# Altium integrated library PCB_Project.IntLib: 70 symbols
Pins are listed as number, name and electrical type; pins without a type are passive.

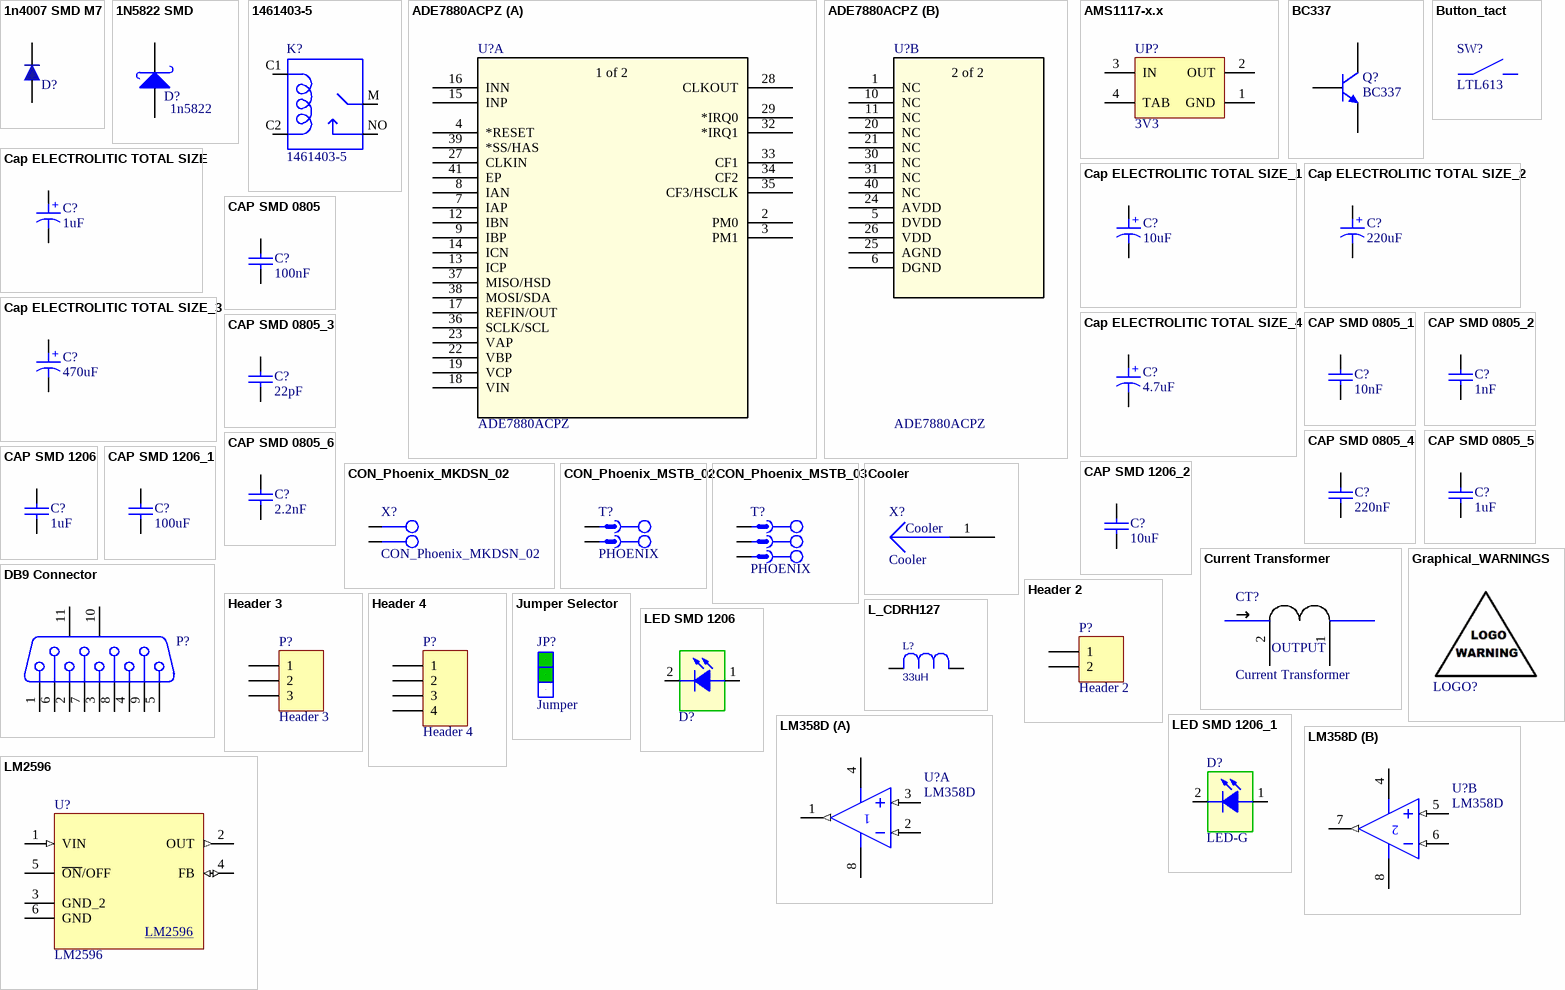
[diagram p0: symbols 1n4007 SMD M7 to LM2596]

## 1n4007 SMD M7
designator D?, comment 1n4007  (value not drawn)
Standard Rectifiers; Part. No: M7; Manufacturer: DC COMPONENTS; Designer: Abbas Basereh; Link: http://www.tme.eu/en/details/m7/smd-universal-diodes/dc-components/; Link: https://www.aliexpress.com/item/Smd-tube-1n4007-m7-SMA/1213719741.html?spm=2114.01010208.3.1.ZyZ7bC&ws_ab_test=searchweb0_0,searchweb201602_4_10065_10068_10084_10083_10080_10082_10081_10060_10061_10062_10056_10055_10054_10059_10099_10078_10079_427_10073_10103_10102_10096_10052_10050_10051,searchweb201603_4&btsid=db2be5ca-e560-400a-b91c-484ab5ee228b; Data: 16-12-2016
footprint DIOM4629X24N (Molded Diode, 2-Leads, Body 4/60x2/90mm, IPC Medium Density)
pins: 1, 2

## 1N5822 SMD
designator D?, comment 1n5822
Schottky Rectifiers; Part. No: SS34; Manufacturer: ON Semiconductor/Fairchild; Designer: Abbas Basereh; Link: https://www.aliexpress.com/item/Free-shipping-100pcs-1n5822-sma-smd-do-214ac-Schottky-diode-ss34/32337482329.html?spm=2114.01010208.3.1.zLZDsP&ws_ab_test=searchweb0_0,searchweb201602_4_10065_10068_10084_10083_10080_10082_10081_10060_10061_10062_10056_10055_10054_10059_10099_10078_10079_427_10073_10103_10102_10096_10052_10050_10051,searchweb201603_4&btsid=6e50dc92-ac69-45bc-a19e-209af19ce602; Link: http://www.tme.eu/en/details/ss34/smd-schottky-diodes/vishay/ss34-e357t/; Link: http://www.digikey.com/product-detail/en/on-semiconductor-fairchild/SS34/SS34FSCT-ND/2094459; Data: 16-12-2016
footprint DIOM7568X24N (Molded Diode, 2-Leads, Body 7/50x6/80mm, IPC Medium Density)
footprint DO-214AB(SMC) (Molded Diode, 2-Leads, Body 6/85x5/90mm, IPC Medium Density DESIGNER ABBAS BASEREH)
pins: 1 A, 2 K

## 1461403-5
designator K?
Electromechanical Relay 24VDC 2.8KOhm 8A SPST-NO_18.2x10.2x14.7_mm THT Industrial Relay; MF: TE Connectivity; Price: None; Package: None; TE_purchase_URL: https://www.te.com/usa-en/product-1461403-5.html?te_bu=Cor&te_type=disp&te_campaign=seda_glo_cor-seda-global-disp-prtnr-fy19-seda-model-bom-cta_sma-317_1&elqCampaignId=32493; Value: *; MP: 1461403-5; Availability: Unavailable; SnapEDA_Link: https://www.snapeda.com/parts/1461403-5/TE%20Connectivity%20Potter%20%26%20Brumfield%20Relays/view-part/2370888/?ref=snap
footprint RELAY_1461403-5
footprint Miniature_Relay
pins: C1, C2, M, NO

## ADE7880ACPZ
designator U?
No Description Available; Mfr_Name: Analog Devices Inc; Copyright: Copyright (C) 2022 Ultra Librarian. All rights reserved.; Manufacturer_Part_Number: ADE7880ACPZ; RefDes: RefDes; Type: DEV
footprint CP_40_10_ADI
part A pins: 2 PM0, 3 PM1, 4 *RESET, 7 IAP, 8 IAN, 9 IBP, 12 IBN, 13 ICP, 14 ICN, 15 INP, 16 INN, 17 REFIN/OUT, 18 VIN, 19 VCP, 22 VBP, 23 VAP, 27 CLKIN, 28 CLKOUT, 29 *IRQ0, 32 *IRQ1, 33 CF1, 34 CF2, 35 CF3/HSCLK, 36 SCLK/SCL, 37 MISO/HSD, 38 MOSI/SDA, 39 *SS/HAS, 41 EP
part B pins: 1 NC, 5 DVDD, 6 DGND, 10 NC, 11 NC, 20 NC, 21 NC, 24 AVDD, 25 AGND, 26 VDD, 30 NC, 31 NC, 40 NC
part A text: 1 of 2
part B text: 2 of 2

## AMS1117-x.x
designator UP?, comment 3V3
x.x Volt, 800mA Low-Dropout Linear Regulator, 4-pin SOT-223; Designer: Ali Hafizi; Data: 16-12-2016
footprint SOT223 (SOT223, 4-Leads, Body 6.5x3.5mm, Pitch 2.30mm-Designer Abbas Basereh)
footprint SOT223_L (SOT223, 4-Leads, Body 6.5x3.5mm, Pitch 2.3mm, Lead Span 7mm, IPC High Density)
footprint SOT223_M (SOT223, 4-Leads, Body 6.5x3.5mm, Pitch 2.3mm, Lead Span 7mm, IPC Low Density)
footprint SOT223_N (SOT223, 4-Leads, Body 6.5x3.5mm, Pitch 2.3mm, Lead Span 7mm, IPC Medium Density)
pins: 1 GND (power), 2 OUT (power), 3 IN (power), 4 TAB (power)

## BC337
designator Q?
45 V, 500 mA NPN general-purpose transistors; Published: 2017-2-8; LatestRevisionDate: 2017; LatestRevisionNote: IPC-7351 Footprint Added.; DatasheetVersion: 2017; PackageVersion: 2017-2-8; PackageReference: SOT23; Publisher: Abbas Basereh; PackageDescription: 3-Pin SOT-23 Package 0.95 mm Pitch, 2.3 mm Lead Span; ComponentLink1Description: Manufacturer Link; ComponentLink1URL: http://www.nxp.com/; ComponentLink2Description: Datasheet; ComponentLink2URL: http://www.nxp.com/
footprint SOT23_N (SOT23, 3-Leads, Body 2.9x1.3mm, Pitch 0.95mm, Lead Span 2.3mm, IPC Medium Density)
footprint SOT23_L (SOT23, 3-Leads, Body 2.9x1.3mm, Pitch 0.95mm, Lead Span 2.3mm, IPC High Density)
footprint SOT23_M (SOT23, 3-Leads, Body 2.9x1.3mm, Pitch 0.95mm, Lead Span 2.3mm, IPC Low Density)
pins: 1 B, 2 E, 3 C

## Button_tact
designator SW?, comment LTL613
Tact button switch
footprint pb-kfc-3x6x5 (taktile switch)
pins: 0, 1

## Cap ELECTROLITIC TOTAL SIZE
designator C?, comment 1uF
Cap electrolitic radial; Designer: Abbas Basereh; Data: 16-12-2016; Part. No: *; VALUE: 1uF
footprint Cap electrolitic radial 18x36-7.5 (Cap electrolitic radial 18x36-7.5-Design:Abbas Basereh)
footprint Cap electrolitic radial 18x40-7.5 (Cap electrolitic radial 18x40-7.5-Design:Abbas Basereh)
footprint Cap electrolitic radial 5x11-2 (Cap electrolitic radial 5x11-2-Design:Abbas Basereh)
footprint Cap electrolitic radial 5x12-2 (Cap electrolitic radial 5x12-2-Design:Abbas Basereh)
footprint Cap electrolitic radial 8x14-3.5 (Cap electrolitic radial 8x14-3.5-Design:Abbas Basereh)
footprint Cap electrolitic radial 6x7-2.5 (Cap electrolitic radial 6x7-2.5-Design:Abbas Basereh)
footprint Cap electrolitic radial 4x7-1.5 (Cap electrolitic radial 5x11-2-Design:Ali Hafizi)
footprint Cap electrolitic radial 6.3x12-2.5 (Capacitor Electrolytic D=6.3 x H=12 - P=2.5 mm, Altium Compatible)
footprint Cap electrolitic radial 8MM (Cap electrolitic radial 8MM-Design:Ali Hafizi)
footprint Cap electrolitic radial 8x11.5-3.5 (Cap electrolitic radial 8x11.5-3.5-Design:Ali Hafizi)
footprint Cap electrolitic radial 12.5x20-5 (Cap electrolitic radial 12.5x20-5-Design:Abbas Basereh)
footprint Cap electrolitic radial 12.5x25-5 (Cap electrolitic radial 12.5x25-5-Design:Abbas Basereh)
footprint Cap electrolitic radial 12.5x21.5-5 (Cap electrolitic radial 12.5x21.5-5-Design:Ali Hafizi)
footprint Cap SMD 100UF 35~50v
footprint CAP SMD 470uF (SMD CAP 470uF)
footprint CAP SMD 1000UF 16V
footprint Cap1206_(3216X18L)Size A (Footprint not found)
pins: 1, 2
1 alternate drawing of the same symbol
text: +

## Cap ELECTROLITIC TOTAL SIZE_1
designator C?, comment 10uF
Cap electrolitic radial; Designer: Abbas Basereh; VALUE: 1uF; Data: 16-12-2016; Part. No: *
footprint Cap electrolitic radial 10x20-5 (Cap electrolitic radial 10x20-5-Design:Abbas Basereh)
footprint Cap electrolitic radial 8x12-3.5 (Cap electrolitic radial 8x12-3.5-Design:Abbas Basereh)
footprint Cap electrolitic radial 10x16-5 (Cap electrolitic radial 10x16-5-Design:Abbas Basereh)
footprint Cap electrolitic radial 10x25-5 (Cap electrolitic radial 10x25-5-Design:Abbas Basereh)
footprint Cap electrolitic radial 10x30-5 (Cap electrolitic radial 10x30-5-Design:Abbas Basereh)
footprint Cap electrolitic radial 13x25-5 (Cap electrolitic radial 13x25-5-Design:Abbas Basereh)
footprint Cap electrolitic radial 16x26-7.5 (Cap electrolitic radial 16x26-7.5-Design:Abbas Basereh)
footprint Cap electrolitic radial 16x31.5-7.5 (Cap electrolitic radial 16x31.5-7.5-Design:Abbas Basereh)
footprint Cap electrolitic radial 18x26 (Cap electrolitic radial 18x26-Design:Abbas Basereh)
footprint Cap electrolitic radial 18x36-7.5 (Cap electrolitic radial 18x36-7.5-Design:Abbas Basereh)
footprint Cap electrolitic radial 18x40-7.5 (Cap electrolitic radial 18x40-7.5-Design:Abbas Basereh)
footprint Cap electrolitic radial 5x11-2 (Cap electrolitic radial 5x11-2-Design:Abbas Basereh)
footprint Cap electrolitic radial 5x12-2 (Cap electrolitic radial 5x12-2-Design:Abbas Basereh)
footprint Cap electrolitic radial 8x14-3.5 (Cap electrolitic radial 8x14-3.5-Design:Abbas Basereh)
footprint Cap electrolitic radial 6x7-2.5 (Cap electrolitic radial 6x7-2.5-Design:Abbas Basereh)
footprint Cap electrolitic radial 4x7-1.5 (Cap electrolitic radial 5x11-2-Design:Ali Hafizi)
footprint Cap electrolitic radial 6.3x12-2.5 (Capacitor Electrolytic D=6.3 x H=12 - P=2.5 mm, Altium Compatible)
footprint Cap electrolitic radial 8MM (Cap electrolitic radial 8MM-Design:Ali Hafizi)
footprint Cap electrolitic radial 8x11.5-3.5 (Cap electrolitic radial 8x11.5-3.5-Design:Ali Hafizi)
footprint Cap electrolitic radial 12.5x20-5 (Cap electrolitic radial 12.5x20-5-Design:Abbas Basereh)
footprint Cap electrolitic radial 12.5x25-5 (Cap electrolitic radial 12.5x25-5-Design:Abbas Basereh)
footprint Cap electrolitic radial 12.5x21.5-5 (Cap electrolitic radial 12.5x21.5-5-Design:Ali Hafizi)
footprint Cap1206_(3216X18L)Size A (Chip Capacitor, 2-Leads, Body 3.2x1.6mm, IPC High Density, chip Tantalum)
footprint Cap SMD 100UF 35~50v
footprint CAP SMD 470uF (SMD CAP 470uF)
footprint CAP SMD 1000UF 16V
pins: 1, 2
1 alternate drawing of the same symbol
text: +

## Cap ELECTROLITIC TOTAL SIZE_2
designator C?, comment 220uF
Cap electrolitic radial; Designer: Abbas Basereh; VALUE: 1uF; Data: 16-12-2016; Part. No: *
footprint Cap electrolitic radial 10x20-5 (Cap electrolitic radial 10x20-5-Design:Abbas Basereh)
footprint Cap electrolitic radial 8x12-3.5 (Cap electrolitic radial 8x12-3.5-Design:Abbas Basereh)
footprint Cap electrolitic radial 10x16-5 (Cap electrolitic radial 10x16-5-Design:Abbas Basereh)
footprint Cap electrolitic radial 10x25-5 (Cap electrolitic radial 10x25-5-Design:Abbas Basereh)
footprint Cap electrolitic radial 10x30-5 (Cap electrolitic radial 10x30-5-Design:Abbas Basereh)
footprint Cap electrolitic radial 13x25-5 (Cap electrolitic radial 13x25-5-Design:Abbas Basereh)
footprint Cap electrolitic radial 16x26-7.5 (Cap electrolitic radial 16x26-7.5-Design:Abbas Basereh)
footprint Cap electrolitic radial 16x31.5-7.5 (Cap electrolitic radial 16x31.5-7.5-Design:Abbas Basereh)
footprint Cap electrolitic radial 18x26 (Cap electrolitic radial 18x26-Design:Abbas Basereh)
footprint Cap electrolitic radial 18x36-7.5 (Cap electrolitic radial 18x36-7.5-Design:Abbas Basereh)
footprint Cap electrolitic radial 18x40-7.5 (Cap electrolitic radial 18x40-7.5-Design:Abbas Basereh)
footprint Cap electrolitic radial 5x11-2 (Cap electrolitic radial 5x11-2-Design:Abbas Basereh)
footprint Cap electrolitic radial 5x12-2 (Cap electrolitic radial 5x12-2-Design:Abbas Basereh)
footprint Cap electrolitic radial 8x14-3.5 (Cap electrolitic radial 8x14-3.5-Design:Abbas Basereh)
footprint Cap electrolitic radial 6x7-2.5 (Cap electrolitic radial 6x7-2.5-Design:Abbas Basereh)
footprint Cap electrolitic radial 4x7-1.5 (Cap electrolitic radial 5x11-2-Design:Ali Hafizi)
footprint Cap electrolitic radial 6.3x12-2.5 (Capacitor Electrolytic D=6.3 x H=12 - P=2.5 mm, Altium Compatible)
footprint Cap electrolitic radial 8MM (Cap electrolitic radial 8MM-Design:Ali Hafizi)
footprint Cap electrolitic radial 8x11.5-3.5 (Cap electrolitic radial 8x11.5-3.5-Design:Ali Hafizi)
footprint Cap electrolitic radial 12.5x20-5 (Cap electrolitic radial 12.5x20-5-Design:Abbas Basereh)
footprint Cap electrolitic radial 12.5x25-5 (Cap electrolitic radial 12.5x25-5-Design:Abbas Basereh)
footprint Cap electrolitic radial 12.5x21.5-5 (Cap electrolitic radial 12.5x21.5-5-Design:Ali Hafizi)
footprint Cap1206_(3216X18L)Size A (Chip Capacitor, 2-Leads, Body 3.2x1.6mm, IPC High Density, chip Tantalum)
footprint Cap SMD 100UF 35~50v
footprint CAP SMD 470uF (SMD CAP 470uF)
footprint CAP SMD 1000UF 16V
pins: 1, 2
1 alternate drawing of the same symbol
text: +

## Cap ELECTROLITIC TOTAL SIZE_3
designator C?, comment 470uF
Cap electrolitic radial; Designer: Abbas Basereh; Data: 16-12-2016; Part. No: *; VALUE: 470uF
footprint Cap electrolitic radial 10x20-5 (Cap electrolitic radial 10x20-5-Design:Abbas Basereh)
footprint Cap electrolitic radial 8x12-3.5 (Cap electrolitic radial 8x12-3.5-Design:Abbas Basereh)
footprint Cap electrolitic radial 10x16-5 (Cap electrolitic radial 10x16-5-Design:Abbas Basereh)
footprint Cap electrolitic radial 10x25-5 (Cap electrolitic radial 10x25-5-Design:Abbas Basereh)
footprint Cap electrolitic radial 10x30-5 (Cap electrolitic radial 10x30-5-Design:Abbas Basereh)
footprint Cap electrolitic radial 13x25-5 (Cap electrolitic radial 13x25-5-Design:Abbas Basereh)
footprint Cap electrolitic radial 16x26-7.5 (Cap electrolitic radial 16x26-7.5-Design:Abbas Basereh)
footprint Cap electrolitic radial 16x31.5-7.5 (Cap electrolitic radial 16x31.5-7.5-Design:Abbas Basereh)
footprint Cap electrolitic radial 18x26 (Cap electrolitic radial 18x26-Design:Abbas Basereh)
footprint Cap electrolitic radial 18x36-7.5 (Cap electrolitic radial 18x36-7.5-Design:Abbas Basereh)
footprint Cap electrolitic radial 18x40-7.5 (Cap electrolitic radial 18x40-7.5-Design:Abbas Basereh)
footprint Cap electrolitic radial 5x11-2 (Cap electrolitic radial 5x11-2-Design:Abbas Basereh)
footprint Cap electrolitic radial 5x12-2 (Cap electrolitic radial 5x12-2-Design:Abbas Basereh)
footprint Cap electrolitic radial 8x14-3.5 (Cap electrolitic radial 8x14-3.5-Design:Abbas Basereh)
footprint Cap electrolitic radial 6x7-2.5 (Cap electrolitic radial 6x7-2.5-Design:Abbas Basereh)
footprint Cap electrolitic radial 4x7-1.5 (Cap electrolitic radial 5x11-2-Design:Ali Hafizi)
footprint Cap electrolitic radial 6.3x12-2.5 (Capacitor Electrolytic D=6.3 x H=12 - P=2.5 mm, Altium Compatible)
footprint Cap electrolitic radial 8MM (Cap electrolitic radial 8MM-Design:Ali Hafizi)
footprint Cap electrolitic radial 8x11.5-3.5 (Cap electrolitic radial 8x11.5-3.5-Design:Ali Hafizi)
footprint Cap electrolitic radial 12.5x20-5 (Cap electrolitic radial 12.5x20-5-Design:Abbas Basereh)
footprint Cap electrolitic radial 12.5x25-5 (Cap electrolitic radial 12.5x25-5-Design:Abbas Basereh)
footprint Cap electrolitic radial 12.5x21.5-5 (Cap electrolitic radial 12.5x21.5-5-Design:Ali Hafizi)
footprint Cap1206_(3216X18L)Size A (Chip Capacitor, 2-Leads, Body 3.2x1.6mm, IPC High Density, chip Tantalum)
footprint Cap SMD 100UF 35~50v
footprint CAP SMD 470uF (SMD CAP 470uF)
footprint CAP SMD 1000UF 16V
pins: 1, 2
1 alternate drawing of the same symbol
text: +

## Cap ELECTROLITIC TOTAL SIZE_4
designator C?, comment 4.7uF
Cap electrolitic radial; Designer: Abbas Basereh; VALUE: 1uF; Data: 16-12-2016; Part. No: *
footprint Cap electrolitic radial 10x20-5 (Cap electrolitic radial 10x20-5-Design:Abbas Basereh)
footprint Cap electrolitic radial 8x12-3.5 (Cap electrolitic radial 8x12-3.5-Design:Abbas Basereh)
footprint Cap electrolitic radial 10x16-5 (Cap electrolitic radial 10x16-5-Design:Abbas Basereh)
footprint Cap electrolitic radial 10x25-5 (Cap electrolitic radial 10x25-5-Design:Abbas Basereh)
footprint Cap electrolitic radial 10x30-5 (Cap electrolitic radial 10x30-5-Design:Abbas Basereh)
footprint Cap electrolitic radial 13x25-5 (Cap electrolitic radial 13x25-5-Design:Abbas Basereh)
footprint Cap electrolitic radial 16x26-7.5 (Cap electrolitic radial 16x26-7.5-Design:Abbas Basereh)
footprint Cap electrolitic radial 16x31.5-7.5 (Cap electrolitic radial 16x31.5-7.5-Design:Abbas Basereh)
footprint Cap electrolitic radial 18x26 (Cap electrolitic radial 18x26-Design:Abbas Basereh)
footprint Cap electrolitic radial 18x36-7.5 (Cap electrolitic radial 18x36-7.5-Design:Abbas Basereh)
footprint Cap electrolitic radial 18x40-7.5 (Cap electrolitic radial 18x40-7.5-Design:Abbas Basereh)
footprint Cap electrolitic radial 5x11-2 (Cap electrolitic radial 5x11-2-Design:Abbas Basereh)
footprint Cap electrolitic radial 5x12-2 (Cap electrolitic radial 5x12-2-Design:Abbas Basereh)
footprint Cap electrolitic radial 8x14-3.5 (Cap electrolitic radial 8x14-3.5-Design:Abbas Basereh)
footprint Cap electrolitic radial 6x7-2.5 (Cap electrolitic radial 6x7-2.5-Design:Abbas Basereh)
footprint Cap electrolitic radial 4x7-1.5 (Cap electrolitic radial 5x11-2-Design:Ali Hafizi)
footprint Cap electrolitic radial 6.3x12-2.5 (Capacitor Electrolytic D=6.3 x H=12 - P=2.5 mm, Altium Compatible)
footprint Cap electrolitic radial 8MM (Cap electrolitic radial 8MM-Design:Ali Hafizi)
footprint Cap electrolitic radial 8x11.5-3.5 (Cap electrolitic radial 8x11.5-3.5-Design:Ali Hafizi)
footprint Cap electrolitic radial 12.5x20-5 (Cap electrolitic radial 12.5x20-5-Design:Abbas Basereh)
footprint Cap electrolitic radial 12.5x25-5 (Cap electrolitic radial 12.5x25-5-Design:Abbas Basereh)
footprint Cap electrolitic radial 12.5x21.5-5 (Cap electrolitic radial 12.5x21.5-5-Design:Ali Hafizi)
footprint Cap1206_(3216X18L)Size A (Chip Capacitor, 2-Leads, Body 3.2x1.6mm, IPC High Density, chip Tantalum)
footprint Cap SMD 100UF 35~50v
footprint CAP SMD 470uF (SMD CAP 470uF)
footprint CAP SMD 1000UF 16V
footprint CAPP 1206 (3216X18L) Size A (Chip Capacitor, 2-Leads, Body 3.2x1.6mm, IPC High Density, chip Tantalum)
pins: 1, 2
1 alternate drawing of the same symbol
text: +

## CAP SMD 0805
designator C?, comment 100nF
CAP 0805; Designer: Abbas Basereh; Desc.: CAP SMD 0805; Data: 16-12-2016
footprint CAPC3413X12N (Chip Capacitor, 2-Leads, Body 3/40x1/30mm, IPC Medium Density)
pins: 1, 2

## CAP SMD 0805_1
designator C?, comment 10nF
CAP 0805; Designer: Abbas Basereh; Desc.: CAP SMD 0805; Data: 16-12-2016
footprint CAPC3413X12N (Chip Capacitor, 2-Leads, Body 3/40x1/30mm, IPC Medium Density)
pins: 1, 2

## CAP SMD 0805_2
designator C?, comment 1nF
CAP 0805; Designer: Abbas Basereh; Desc.: CAP SMD 0805; Data: 16-12-2016
footprint CAPC3413X12N (Chip Capacitor, 2-Leads, Body 3/40x1/30mm, IPC Medium Density)
pins: 1, 2

## CAP SMD 0805_3
designator C?, comment 22pF
CAP 0805; Designer: Abbas Basereh; Desc.: CAP SMD 0805; Data: 16-12-2016
footprint CAPC3413X12N (Chip Capacitor, 2-Leads, Body 3/40x1/30mm, IPC Medium Density)
pins: 1, 2

## CAP SMD 0805_4
designator C?, comment 220nF
CAP 0805; Designer: Abbas Basereh; Desc.: CAP SMD 0805; Data: 16-12-2016
footprint CAPC3413X12N (Chip Capacitor, 2-Leads, Body 3/40x1/30mm, IPC Medium Density-Design:Abbas Basereh)
pins: 1, 2

## CAP SMD 0805_5
designator C?, comment 1uF
CAP 0805; Designer: Abbas Basereh; Desc.: CAP SMD 0805; Data: 16-12-2016
footprint CAPC3413X12N (Chip Capacitor, 2-Leads, Body 3/40x1/30mm, IPC Medium Density)
footprint CAPC3413X12N (Chip Capacitor, 2-Leads, Body 3/40x1/30mm, IPC Medium Density-Design:Abbas Basereh)
pins: 1, 2

## CAP SMD 0805_6
designator C?, comment 2.2nF
CAP 0805; Designer: Abbas Basereh; Desc.: CAP SMD 0805; Data: 16-12-2016
footprint CAPC3413X12N (Chip Capacitor, 2-Leads, Body 3/40x1/30mm, IPC Medium Density)
pins: 1, 2

## CAP SMD 1206
designator C?, comment 1uF
CAP 1206; Designer: Abbas Basereh; Desc.: CAP SMD 1206; Data: 16-12-2016
footprint 0805_C
pins: 1, 2

## CAP SMD 1206_1
designator C?, comment 100uF
CAP 1206; Designer: Abbas Basereh; Desc.: CAP SMD 1206; Data: 16-12-2016
footprint CAPC4817X12N (Chip Capacitor, 2-Leads, Body 4/80x1/70mm, IPC Medium Density)
pins: 1, 2

## CAP SMD 1206_2
designator C?, comment 10uF
CAP 1206; Designer: Abbas Basereh; Desc.: CAP SMD 1206; Data: 16-12-2016
footprint CAPC4817X12N (Chip Capacitor, 2-Leads, Body 4/80x1/70mm, IPC Medium Density)
pins: 1, 2

## CON_Phoenix_MKDSN_02
designator X?
Manufacturer: PHOENIX CONTACT; Company: SJ Libraries; Connector type: PCB Terminal Block; designer: Eng. Saeid Jorablo; Max Current: 13.5 A; Positions: 2; Revision 1: 2012/10/1 : Adding Model; Voltage: 400 V; Category: Connector; ComponentLink1Description: Datasheet; ComponentLink2Description: Reference; HelpURL: http://s3.picofile.com/file/7443264187/Coming_Soon_logo.gif; Mounting Technology: Through-Hole; Pin Count: 2; Publisher: SJ UnLimited; Status: Unreleased; Update: 2012/10/1
footprint CON_MSTBA02
footprint MSTB 2,5/2-G-5,08
pins: 1, 2

## CON_Phoenix_MSTB_02
designator T?, comment PHOENIX
2 Pitch: 5.08 mm Color: green Contact surface: Tin Assembly; Manufacturer: PHOENIX CONTACT; Connector type: PCB Terminal Block; designer: ABBAS BASEREH; Max Current: 12 A; Positions: 2; Voltage: 320 V; Category: Connector; ComponentLink1Description: Header, Nominal current: 12 A Rated voltage (III/2): 320 V Number of positions: 2 Pitch: 5.08 mm Color: green Contact surface: Tin Assembly: Soldering  DESIGNER:ABBAS BASEREH; ComponentLink2Description: Reference; Mounting Technology: Through-Hole; Pin Count: 2; Revision 1: 2017-3-1; Status: Unreleased; PART.NO: PHOENIX
footprint MSTB 2,5/2-G-5,08 (Header, Nominal current: 12 A Rated voltage (III/2): 320 V Number of positions: 2 Pitch: 5.08 mm Color: green Contact surface: Tin Assembly: Soldering DESIGNER:ABBAS BASEREH)
signal-integrity model CON-2P (CON-PHOENIX)
footprint MSTB 2,5/2-G (Header, Nominal current: 12 A Rated voltage (III/2): 320 V Number of positions: 2 Pitch: 5.08 mm Color: green Contact surface: Tin Assembly: Soldering)
pins: 1, 2

## CON_Phoenix_MSTB_03
designator T?, comment PHOENIX
3 Pitch: 5.08 mm Color: green Contact surface: Tin Assembly; Manufacturer: PHOENIX CONTACT; Connector type: PCB Terminal Block; designer: ABBAS BASEREH; Max Current: 12 A; Positions: 3; Voltage: 320 V; Category: Connector; ComponentLink1Description: Header, Nominal current: 12 A Rated voltage (III/2): 320 V Number of positions: 3 Pitch: 5.08 mm Color: green Contact surface: Tin Assembly: Soldering  DESIGNER:ABBAS BASEREH; ComponentLink2Description: Reference; Mounting Technology: Through-Hole; Pin Count: 3; Revision 1: 2017-3-1; Status: Unreleased; PART.NO: PHOENIX
footprint MSTB 2,5/3-G-5,08 (Header, Nominal current: 12 A Rated voltage (III/2): 320 V Number of positions: 3 Pitch: 5.08 mm Color: green Contact surface: Tin Assembly: Soldering  DESIGNER:ABBAS BASEREH)
signal-integrity model CON-3P (CON-PHOENIX)
footprint MSTB 2,5/3-G
pins: 1, 2, 3

## Cooler
designator X?
footprint Cooler
pins: 1 5

## Current Transformer
designator CT?
footprint Current Transformer_60/0.06
footprint Current Transformer_5/0.005
pins: 1 IN (power), 2 OUT, 3, 4
text: OUTPUT

## DB9 Connector
designator P?  (value not drawn)
Receptacle Assembly, 9 Position, Right Angle; PackageDocument: O; Positions: 9; Published: 15-Jun-2001; LatestRevisionDate: 17-Jul-2002; LatestRevisionNote: Re-released for DXP Platform.; DatasheetDocument: 1-Sep-1999; PackageReference: 788750; Publisher: Altium Limited; Orientation: Right Angle; Gender: Receptacle
signal-integrity model Connector
footprint DB9 Female (Connector; D Subminiature AMPLIMITE 2000; 9 Position; Right Angle)
footprint DB9 Male (Connector; D Subminiature AMPLIMITE 2000; 9 Position; Right Angle)
pins: 1, 2, 3, 4, 5, 6, 7, 8, 9, 10 MH1, 11 MH2

## Graphical_WARNINGS
designator LOGO?  (no BOM)
WARNING & LOGO; Company: SJ Libraries; Designer: Eng. Saeid Jorablo; Mounting Technology: Surface Mount\Through-Hole; ComponentLink1Description: Datasheet; Pin Count: 0; Update Date: 6/3/2012; Category: MISC; HelpURL: http://s3.picofile.com/file/7443264187/Coming_Soon_logo.gif
footprint LOGO SPEAKER
footprint LOGO USB1 (General USB Logo)
footprint WARNING
footprint WARNING ESD
footprint LOGO RESET
footprint LOGO Saeid1
footprint LOGO ALTIUM1
footprint LOGO ALTIUM2
footprint LOGO USB2 (High Speed USB Logo)
footprint LOGO USB3 (USB Certified Logo)
footprint WARNING Sensitive Devices
7 alternate drawings of the same symbol

## Header 2
designator P?
Header, 2-Pin; LatestRevisionDate: 17-Jul-2002; LatestRevisionNote: Re-released for DXP Platform.; Publisher: Altium Limited
footprint HDR1X2 (Connector; Header; 2 Position)
signal-integrity model Connector
pins: 1, 2

## Header 3
designator P?
Header, 3-Pin; LatestRevisionDate: 17-Jul-2002; LatestRevisionNote: Re-released for DXP Platform.; Publisher: Altium Limited
footprint HDR1X3 (Connector; Header; 3 Position)
signal-integrity model Connector
footprint HDR1X3-1 (Header /Jumper box-Designer Abbas Basereh)
pins: 1, 2, 3

## Header 4
designator P?
Header, 4-Pin; LatestRevisionDate: 17-Jul-2002; LatestRevisionNote: Re-released for DXP Platform.; Publisher: Altium Limited
footprint HDR1X4 (Connector; Header; 4 Position)
signal-integrity model Connector
pins: 1, 2, 3, 4

## Jumper Selector
designator JP?, comment Jumper
Jumper Selector
footprint jumper selector
footprint Jumper Selector SMD
pins: 1, 2, 3

## L_CDRH127
designator L?, comment 33uH
Inductor; Value: 33uH
footprint CDRH127
pins: 1, 2

## LED SMD 1206
designator D?, comment SMD 1206 LED  (value not drawn)
footprint LED 1206
pins: 1, 2

## LED SMD 1206_1
designator D?, comment LED-G
SMD 1206 LED
footprint LED 1206
pins: 1, 2

## LM358D
designator U?
Dual Low-Power Operational Amplifier; Published: 17-Jul-2002; LatestRevisionDate: 13-Apr-2006; LatestRevisionNote: IPC-7351 Footprint Added.; DatasheetVersion: 1988; PackageReference: 751-02; Publisher: Altium Limited; PackageDescription: 8-Pin Small Outline Integrated Circuit 1.27 mm Pitch; Code_JEDEC: MS-012-AA; Code_IPC: SOIC127P600-8; ComponentLink1Description: Manufacturer Link; ComponentLink1URL: http://www.onsemi.com/site/products/parametrics/0,4446,251,00.html; ComponentLink2Description: Datasheet; ComponentLink2URL: http://www.onsemi.com/pub/Collateral/LM358-D.PDF
footprint DIP-8
footprint SO-8_N (SOIC, 8-Leads, Body 4.9x3.9mm, Pitch 1.27mm, IPC Medium Density)
pins on every part: 4 V- (power), 8 V+ (power)
part A pins: 1 OUT (out), 2 IN- (in), 3 IN+ (in)
part B pins: 5 IN+ (in), 6 IN- (in), 7 OUT (out)

## LM2596
designator U?
footprint LM2596 (Regulator)
footprint TO170P1524X483-6N
pins: 1 VIN (in), 2 OUT (out), 3 GND_2, 4 FB (io), 5 ~{ON}/OFF, 6 GND

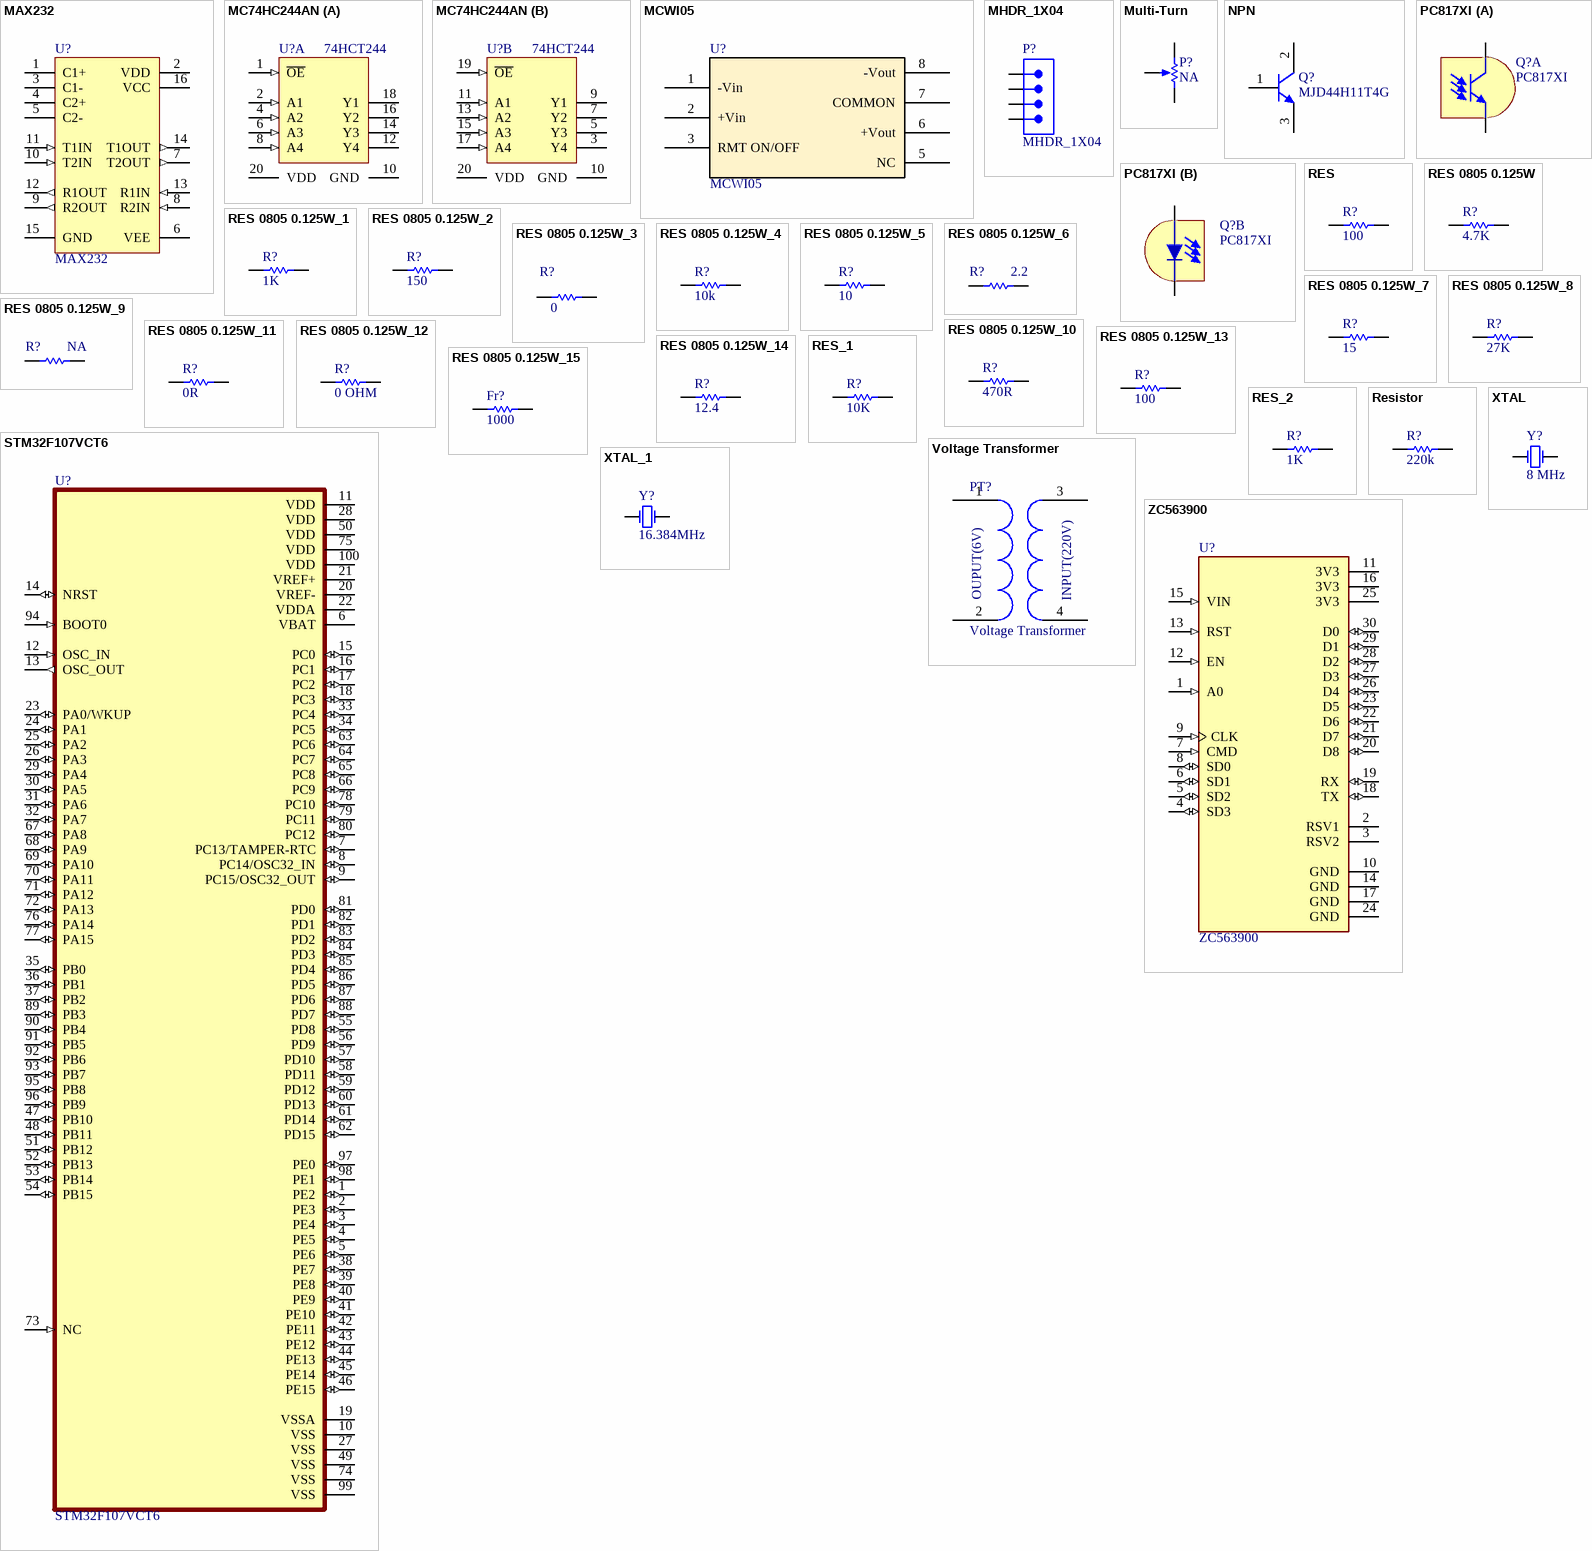
[diagram p1: symbols MAX232 to ZC563900]

## MAX232
designator U?
+5V Powered RS-232 Driver/Receiver; Published: 16-Jan-2001; LatestRevisionDate: 06-Jun-2005; LatestRevisionNote: Stylized 3D Model Added.; DatasheetVersion: Apr-1992; PackageVersion: 1997; PackageReference: PE16A; Publisher: Altium Limited; PackageDescription: DIP; 16 Leads; Row Spacing 7.62 mm; Pitch 2.54 mm; Code_JEDEC: MS-001-BB; ComponentLink1Description: Manufacturer Link; ComponentLink1URL: http://www.maxim-ic.com/; ComponentLink2Description: Datasheet; ComponentLink2URL: http://pdfserv.maxim-ic.com/en/ds/MAX220-MAX249.pdf
footprint DIP-16
footprint SOIC-16 (SOIC, 16-Leads, Body 9.9x3.9mm, Pitch 1.27mm, IPC Medium Density)
pins: 1 C1+, 2 VDD (power), 3 C1-, 4 C2+, 5 C2-, 6 VEE (power), 7 T2OUT (out), 8 R2IN (in), 9 R2OUT (out), 10 T2IN (in), 11 T1IN (in), 12 R1OUT (out), 13 R1IN (in), 14 T1OUT (out), 15 GND (power), 16 VCC (power)

## MC74HC244AN
designator U?, comment 74HCT244
Octal 3-State Non-Inverting Buffer/Line Driver/Line Receiver; Published: 15-Apr-2002; DatasheetVersion: Mar-2000; PackageVersion: 1996; PackageReference: 738-03; Publisher: Altium Limited; PackageDescription: DIP; 20 Leads; Row Spacing 7.62 mm; Pitch 2.54 mm; Code_JEDEC: MS-001-AD; ComponentLink1Description: Manufacturer Link; ComponentLink1URL: http://www.onsemi.com/; ComponentLink2Description: Datasheet; ComponentLink2URL: http://www.onsemi.com/pub/Collateral/MC74HC244A-D.PDF
footprint 967-01_M (SOP, 20-Leads, Body 12.6x5.3mm, Pitch 1.27mm, IPC Low Density)
signal-integrity model MC74HC244AN
footprint SSOP20_M (SOP, 20-Leads, Body 7.2x5.3mm, Pitch 0.65mm, IPC Low Density)
pins on every part: 10 GND (power), 20 VDD (power)
part A pins: 1 ~{OE} (in), 2 A1 (in), 4 A2 (in), 6 A3 (in), 8 A4 (in), 12 Y4 (hiz), 14 Y3 (hiz), 16 Y2 (hiz), 18 Y1 (hiz)
part B pins: 3 Y4 (hiz), 5 Y3 (hiz), 7 Y2 (hiz), 9 Y1 (hiz), 11 A1 (in), 13 A2 (in), 15 A3 (in), 17 A4 (in), 19 ~{OE} (in)

## MCWI05
designator U?
footprint CONV_TMR_3-1212WIE
footprint MCWI05_PCB
pins: 1 -Vin, 2 +Vin, 3 RMT ON/OFF, 5 NC, 6 +Vout, 7 COMMON, 8 -Vout

## MHDR_1X04
designator P?
Male Header 1X04
footprint MHDR1X04-254P (Male Header 1X04 with 2.54 mm Pitch)
pins: 1, 2, 3, 4
1 alternate drawing of the same symbol

## Multi-Turn
designator P?, comment NA
Potentiometer
footprint Multi Turn 02
pins: 1 TOP, 2 TAP, 3 BOT

## NPN
designator Q?, comment MJD44H11T4G
footprint DPACK-SMD
pins: 1, 2, 3

## PC817XI
designator Q?
DIP 4pin General Purpose  Photocoupler; Published: 2017-2-27; DatasheetVersion: 2017-2-27; PackageVersion: 2017-2-27; PackageReference: SMT Gullwing Lead-Form; Publisher: Abbas Basereh; PackageDescription: SOP, 4-Leads, Body 4/65x6/75mm, Pitch 2/54mm, IPC Medium Density designer:abbas basereh; ComponentLink1Description: Manufacturer Link; ComponentLink1URL: http://www.roboeq.ir/files/id/233/name/PC817.pdf/; ComponentLink2Description: DIP 4pin General Purpose
footprint SMT Gullwing Lead-Form (SOP, 4-Leads, Body 4/65x6/75mm, Pitch 2/54mm, IPC Medium Density designer:abbas basereh)
part A pins: 3 E, 4 C
part B pins: 1 A, 2 K

## RES
designator R?, comment 100
footprint Axial-0.4-0.25W
footprint Axial-0.5-0.5W
footprint Axial-0.6-1W
footprint Axial-0.8-2W
footprint Axial-1.3-5W
footprint Axial-2-10W
footprint AXIAL-2.75-15W
footprint AXIAL_5W
footprint R_0805 (Resistor Pattern)
footprint R_0603
footprint R_1206
footprint R2512
footprint RESC3413X04N (Footprint not found)
pins: 1, 2

## RES 0805 0.125W
designator R?, comment 4.7K
RES 0805; Designer: Abbas Basereh; Desc.: RES SMD 0805; Data: 16-12-2016
footprint RESC3413X04N (Chip Resistor, 2-Leads, Body 3/40x1/30mm, IPC Medium Density)
pins: 1, 2

## RES 0805 0.125W_1
designator R?, comment 1K
RES 0805; Designer: Abbas Basereh; Desc.: RES SMD 0805; Data: 16-12-2016
footprint RESC3413X04N (Chip Resistor, 2-Leads, Body 3/40x1/30mm, IPC Medium Density)
pins: 1, 2

## RES 0805 0.125W_2
designator R?, comment 150
RES 0805; Designer: Abbas Basereh; Desc.: RES SMD 0805; Data: 16-12-2016
footprint RESC3413X04N (Chip Resistor, 2-Leads, Body 3/40x1/30mm, IPC Medium Density)
pins: 1, 2

## RES 0805 0.125W_3
designator R?, comment 0
RES 0805; Designer: Abbas Basereh; Desc.: RES SMD 0805; Data: 16-12-2016
footprint RESC3413X04N (Chip Resistor, 2-Leads, Body 3/40x1/30mm, IPC Medium Density)
pins: 1, 2

## RES 0805 0.125W_4
designator R?, comment 10k
RES 0805; Designer: Abbas Basereh; Desc.: RES SMD 0805; Data: 16-12-2016
footprint RESC3413X04N (Chip Resistor, 2-Leads, Body 3/40x1/30mm, IPC Medium Density)
pins: 1, 2

## RES 0805 0.125W_5
designator R?, comment 10
RES 0805; Designer: Abbas Basereh; Desc.: RES SMD 0805; Data: 16-12-2016
footprint RESC3413X04N (Chip Resistor, 2-Leads, Body 3/40x1/30mm, IPC Medium Density)
pins: 1, 2

## RES 0805 0.125W_6
designator R?, comment 2.2
RES 0805; Designer: Abbas Basereh; Desc.: RES SMD 0805; Data: 16-12-2016
footprint RESC3413X04N (Chip Resistor, 2-Leads, Body 3/40x1/30mm, IPC Medium Density)
pins: 1, 2

## RES 0805 0.125W_7
designator R?, comment 15
RES 0805; Designer: Abbas Basereh; Desc.: RES SMD 0805; Data: 16-12-2016
footprint RESC3413X04N (Chip Resistor, 2-Leads, Body 3/40x1/30mm, IPC Medium Density)
pins: 1, 2

## RES 0805 0.125W_8
designator R?, comment 27K
RES 0805; Designer: Abbas Basereh; Desc.: RES SMD 0805; Data: 16-12-2016
footprint RESC3413X04N (Chip Resistor, 2-Leads, Body 3/40x1/30mm, IPC Medium Density)
pins: 1, 2

## RES 0805 0.125W_9
designator R?, comment NA
RES 0805; Designer: Abbas Basereh; Desc.: RES SMD 0805; Data: 16-12-2016
footprint RESC3413X04N (Chip Resistor, 2-Leads, Body 3/40x1/30mm, IPC Medium Density)
pins: 1, 2

## RES 0805 0.125W_10
designator R?, comment 470R
RES 0805; Designer: Abbas Basereh; Desc.: RES SMD 0805; Data: 16-12-2016
footprint RESC3413X04N (Chip Resistor, 2-Leads, Body 3/40x1/30mm, IPC Medium Density)
pins: 1, 2

## RES 0805 0.125W_11
designator R?, comment 0R
RES 0805; Designer: Abbas Basereh; Desc.: RES SMD 0805; Data: 16-12-2016
footprint 0805_R
pins: 1, 2

## RES 0805 0.125W_12
designator R?, comment 0 OHM
RES 0805; Designer: Abbas Basereh; Desc.: RES SMD 0805; Data: 16-12-2016
footprint RESC3413X04N (Chip Resistor, 2-Leads, Body 3/40x1/30mm, IPC Medium Density)
pins: 1, 2

## RES 0805 0.125W_13
designator R?, comment 100
RES 0805; Designer: Abbas Basereh; Desc.: RES SMD 0805; Data: 16-12-2016
footprint RESC3413X04N (Chip Resistor, 2-Leads, Body 3/40x1/30mm, IPC Medium Density-Design:Abbas Basereh)
pins: 1, 2

## RES 0805 0.125W_14
designator R?, comment 12.4
RES 0805; Designer: Abbas Basereh; Desc.: RES SMD 0805; Data: 16-12-2016
footprint RESC3413X04N (Chip Resistor, 2-Leads, Body 3/40x1/30mm, IPC Medium Density-Design:Abbas Basereh)
pins: 1, 2

## RES 0805 0.125W_15
designator Fr?, comment 1000
RES 0805; Designer: Abbas Basereh; Desc.: RES SMD 0805; Data: 16-12-2016
footprint RESC3413X04N (Chip Resistor, 2-Leads, Body 3/40x1/30mm, IPC Medium Density-Design:Abbas Basereh)
pins: 1, 2

## RES_1
designator R?, comment 10K
footprint Axial-0.4-0.25W
footprint Axial-0.5-0.5W
footprint Axial-0.6-1W
footprint Axial-0.8-2W
footprint Axial-1.3-5W
footprint Axial-2-10W
footprint AXIAL-2.75-15W
footprint AXIAL_5W
footprint R_0805 (Resistor Pattern)
footprint R_0603
footprint R_1206
footprint R2512
footprint RESC3413X04N (Footprint not found)
pins: 1, 2

## RES_2
designator R?, comment 1K
footprint Axial-0.4-0.25W
footprint Axial-0.5-0.5W
footprint Axial-0.6-1W
footprint Axial-0.8-2W
footprint Axial-1.3-5W
footprint Axial-2-10W
footprint AXIAL-2.75-15W
footprint AXIAL_5W
footprint R_0805 (Resistor Pattern)
footprint R_0603
footprint R_1206
footprint R2512
footprint RESC3413X04N (Footprint not found)
pins: 1, 2

## Resistor
designator R?  value 220k  (hidden comment: Resistor)
footprint 0603_R (SMD 0603 Resistor)
footprint SMD_1206HV (High Voltage Resistor)
footprint RES2512 (Chip Resistor, 2-Leads, Body 6/40x3/20mm, IPC Medium Density DESIGNER:ABBAS BASEREH)
pins: 1, 2

## STM32F107VCT6
designator U?
ARMÂ® CortexÂ®-M3 STM32F1 Microcontroller IC 32-Bit 72MHz 256KB _256K x 8_ FLASH; MF: STMicroelectronics; Package: LQFP-100 STMicroelectronics; Value: *; Price: None; MP: STM32F107VCT6; SnapEDA_Link: https://www.snapeda.com/parts/STM32F107VCT6/STMicroelectronics/view-part/46316/?ref=snap; Availability: Unavailable
footprint QFP50P1600X1600X160-100N
footprint QFP50P1600X1600X160-100N
pins: 1 PE2 (io), 2 PE3 (io), 3 PE4 (io), 4 PE5 (io), 5 PE6 (io), 6 VBAT (power), 7 PC13/TAMPER-RTC (io), 8 PC14/OSC32_IN (io), 9 PC15/OSC32_OUT (io), 10 VSS (power), 11 VDD (power), 12 OSC_IN (in), 13 OSC_OUT (out), 14 NRST (io), 15 PC0 (io), 16 PC1 (io), 17 PC2 (io), 18 PC3 (io), 19 VSSA (power), 20 VREF- (power), 21 VREF+ (power), 22 VDDA (power), 23 PA0/WKUP (io), 24 PA1 (io), 25 PA2 (io), 26 PA3 (io), 27 VSS (power), 28 VDD (power), 29 PA4 (io), 30 PA5 (io), 31 PA6 (io), 32 PA7 (io), 33 PC4 (io), 34 PC5 (io), 35 PB0 (io), 36 PB1 (io), 37 PB2 (io), 38 PE7 (io), 39 PE8 (io), 40 PE9 (io), 41 PE10 (io), 42 PE11 (io), 43 PE12 (io), 44 PE13 (io), 45 PE14 (io), 46 PE15 (io), 47 PB10 (io), 48 PB11 (io), 49 VSS (power), 50 VDD (power), 51 PB12 (io), 52 PB13 (io), 53 PB14 (io), 54 PB15 (io), 55 PD8 (io), 56 PD9 (io), 57 PD10 (io), 58 PD11 (io), 59 PD12 (io), 60 PD13 (io), 61 PD14 (io), 62 PD15 (io), 63 PC6 (io), 64 PC7 (io), 65 PC8 (io), 66 PC9 (io), 67 PA8 (io), 68 PA9 (io), 69 PA10 (io), 70 PA11 (io), 71 PA12 (io), 72 PA13 (io), 73 NC (in), 74 VSS (power), 75 VDD (power), 76 PA14 (io), 77 PA15 (io), 78 PC10 (io), 79 PC11 (io), 80 PC12 (io), 81 PD0 (io), 82 PD1 (io), 83 PD2 (io), 84 PD3 (io), 85 PD4 (io), 86 PD5 (io), 87 PD6 (io), 88 PD7 (io), 89 PB3 (io), 90 PB4 (io), 91 PB5 (io), 92 PB6 (io), 93 PB7 (io), 94 BOOT0 (in), 95 PB8 (io), 96 PB9 (io), 97 PE0 (io), 98 PE1 (io), 99 VSS (power), 100 VDD (power)

## Voltage Transformer
designator PT?
footprint Voltage Transformer_L
footprint Isolated Voltage Transformer
pins: 1 OUT_1, 2 OUT_2, 3 IN_1, 4 IN_2
text: OUPUT(6V); INPUT(220V)

## XTAL
designator Y?, comment 8 MHz
XTAL Crystal; Designer: ABBAS BASEREH; Value: 12 MHz; Design Date: 2017-1-3; ComponentLink1Description: Datasheet; ComponentLink2Description: Reference; Mounting Technology: Surface Mount\Through-Hole; Status: Unreleased
footprint CRYSTAL Small (DESIGNER ABBAS BASEREH)
footprint Crystal SMD (DESIGNER ABBAS BASEREH)
footprint XTAL 16MHZ (Crystal Oscillator)
footprint XTAL L (Crystal Oscillator)
footprint XTAL M (Crystal Oscillator)
footprint XTAL RTC (Crystal Oscillator)
pins: 1 OSC1, 2 OSC2

## XTAL_1
designator Y?, comment 16.384MHz
XTAL Crystal; Designer: ABBAS BASEREH; Value: 12 MHz; Design Date: 2017-1-3; ComponentLink1Description: Datasheet; ComponentLink2Description: Reference; Mounting Technology: Surface Mount\Through-Hole; Status: Unreleased
footprint CRYSTAL Small (DESIGNER ABBAS BASEREH)
footprint Crystal SMD (DESIGNER ABBAS BASEREH)
footprint XTAL 16MHZ (Crystal Oscillator)
footprint XTAL L (Crystal Oscillator)
footprint XTAL M (Crystal Oscillator)
footprint XTAL RTC (Crystal Oscillator)
pins: 1 OSC1, 2 OSC2

## ZC563900
designator U?
NodeMcu Lua ESP8266 WIFI Internet of Things Network Development Module Board; MF: YKS; MP: ZC563900; Package: None; Price: None; Availability: Unavailable; Value: *; SnapEDA_Link: https://www.snapeda.com/parts/ZC563900/YKS/view-part/607853/?ref=snap
footprint MODULE_ZC563900
pins: 1 A0 (in), 2 RSV1, 3 RSV2, 4 SD3 (io), 5 SD2 (io), 6 SD1 (io), 7 CMD (in), 8 SD0 (io), 9 CLK (in), 10 GND (power), 11 3V3 (power), 12 EN (in), 13 RST (in), 14 GND (power), 15 VIN (in), 16 3V3 (power), 17 GND (power), 18 TX (io), 19 RX (io), 20 D8 (io), 21 D7 (io), 22 D6 (io), 23 D5 (io), 24 GND (power), 25 3V3 (power), 26 D4 (io), 27 D3 (io), 28 D2 (io), 29 D1 (io), 30 D0 (io)